# Altium schematic symbol library Nutz.SchLib: 70 symbols
Pins are listed as number, name and electrical type; pins without a type are passive.

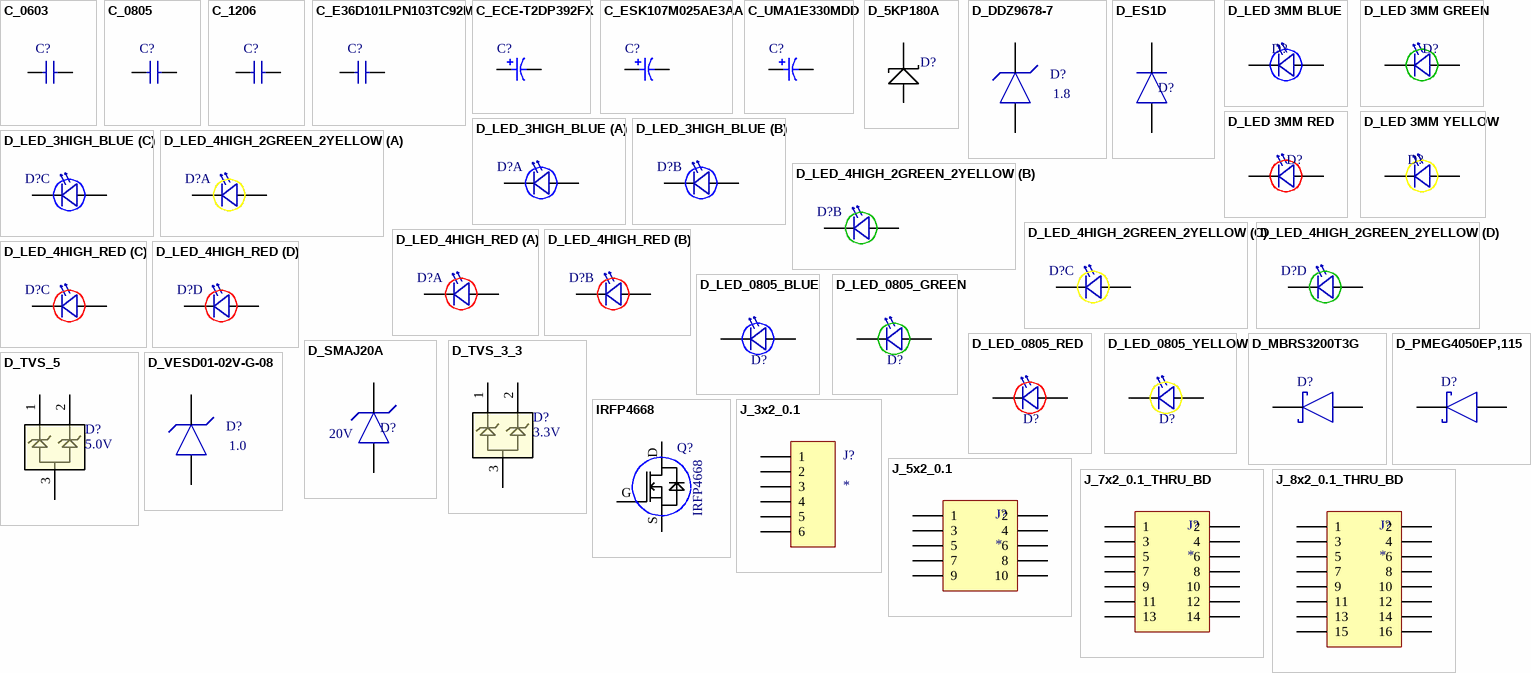
[diagram p0: symbols C_0603 to J_8x2_0.1_THRU_BD]

## C_0603
designator C?, comment CAP 0603  (value not drawn)
CAP CERM 0603; Known Distributors: Digikey; Package: 0603
footprint 0603_cap
pins: 1, 2

## C_0805
designator C?, comment CAP 0805  (value not drawn)
CAP CERM 0805; Known Distributors: Digikey; Package: 0805
footprint 0805_Capacitor (0805 Capacitor)
pins: 1, 2

## C_1206
designator C?, comment CAP 1206  (value not drawn)
CAP CERM 1206; Known Distributors: Digikey; Package: 1206
footprint 1206_CAPACITOR (1206 Resistor/Capacitor)
pins: 1, 2

## C_E36D101LPN103TC92M
designator C?, comment CAP PLACEHOLDER  (value not drawn)
CAP ALUM 10000UF 100V SCREW; Known Distributors: Digikey; Package: 1206
footprint E36D101LPN103TC92M
pins: 1, 2

## C_ECE-T2DP392FX
designator C?
CAP ALUM 3900UF 200V 20% SNAP; Manufacturer: Panasonic; Part Number: ECE-T2DP392FX
footprint T-UP Series 4 Pin
pins: 1, 2

## C_ESK107M025AE3AA
designator C?
CAP ALUM 100UF 25V 20% RADIAL; Manufacturer: Kemet; Part Number: ESK107M025AE3AA
footprint CAPPR2.5-6.3x11 (Capacitor, Electrolytic, Radial; Body 6.3 x 11 mm (Dia.xH typ); Pin Spacing 2.5 mm (typ))
pins: 1, 2

## C_UMA1E330MDD
designator C?
CAP ALUM 33UF 25V 20% RADIAL; Manufacturer: Nichicon; Part Number: UMA1E330MDD
footprint CAPPR2.5-6.3x11 (Capacitor, Electrolytic, Radial; Body 6.3 x 11 mm (Dia.xH typ); Pin Spacing 2.5 mm (typ))
pins: 1, 2

## D_5KP180A
designator D?  (value not drawn)
5KP180A
footprint DIODE_TVS_5000W
pins: A Anode, K Cathode

## D_DDZ9678-7
designator D?  Voltage: 1.8
DIODE ZENER 1.8V 500MW SOD-123; Manufacturer PN: DDZ9678-7
footprint SOD123
pins: A, K

## D_ES1D
designator D?
DIODE ULTRAFAST 200V 1A DO-214AC; Manufactuer: Fairchild; Part Number: ES1D
footprint SMA
pins: A, K

## D_LED 3MM BLUE
designator D?, comment 3MM YELLOW  (value not drawn)
LED 3MM BLUE; Distributor: Digikey
footprint LED 3MM BLUE (Footprint not found)
pins: A Anode, K Cathode

## D_LED 3MM GREEN
designator D?, comment 3MM GREEN  (value not drawn)
LED 3MM GREEN; Dist PN: 365-1174-ND; Distributor: Digikey
footprint LED 3MM GREEN
pins: A Anode, K Cathode

## D_LED 3MM RED
designator D?, comment 3MM RED  (value not drawn)
LED 3MM RED; Dist PN: 365-1175-ND; Distributor: Digikey
footprint LED 3MM RED
pins: A Anode, K Cathode

## D_LED 3MM YELLOW
designator D?, comment 3MM YELLOW  (value not drawn)
LED 3MM YELLOW; Dist PN: 365-1176-ND; Distributor: Digikey
footprint LED 3MM YELLOW
pins: A Anode, K Cathode

## D_LED_3HIGH_BLUE
designator D?
LED 3MM TRI-LEVEL HI-EFF BLUE; Part Number: 564-0100-999F; Manufacturer: Dialight
footprint DIALIGHT 564
part A pins: 1 Cathode, 2 Anode
part B pins: 3 Cathode, 4 Anode
part C pins: 5 Cathode, 6 Anode

## D_LED_4HIGH_2GREEN_2YELLOW
designator D?
LED 4HI 3MM GRN/YEL/GRN/YEL PCMT; Part Number: 568-0102-323F; Manufacturer: Dialight
footprint DIALIGHT 568 (Footprint not found)
part A pins: 1 Cathode, 2 Anode
part B pins: 3 Cathode, 4 Anode
part C pins: 5 Cathode, 6 Anode
part D pins: 7 Cathode, 8 Anode

## D_LED_4HIGH_RED
designator D?
LED 4HI 3MM 5V RED PC MNT; Part Number: 568-0301-111F; Manufacturer: Dialight
footprint DIALIGHT 568 (Footprint not found)
part A pins: 1 Cathode, 2 Anode
part B pins: 3 Cathode, 4 Anode
part C pins: 5 Cathode, 6 Anode
part D pins: 7 Cathode, 8 Anode

## D_LED_0805_BLUE
designator D?  (value not drawn)
LED 2X1.2MM 470NM BL WTR CLR SMD; SVP Creator: Jonathan Nutzmann; Current: 20mA; Forward Voltage: 3.3; Value: RED; Package: 0805; Known Distributors: Digikey; ComponentLink1Description: Datasheet
footprint 0805P_BLUE (Chip Capacitor; Body 2.0 x 1.2 mm (LxW typ))
pins: 1 Cathode, 2 Anode

## D_LED_0805_GREEN
designator D?  (value not drawn)
LED CHIPLED 570NM GREEN 0805 SMD; Manufacturer: Osram Opto Semiconductors Inc; Manufacturer PN: LG R971-KN-1-0-20-R18; SVP Creator: Nate Bolyard; SVP Reviewer 1: Trevtron; Current: 20mA; Forward Voltage: 2.2V; Package: 0805; Known Distributors: Digikey; Value: GREEN; HelpURL: http://umnsvp.dyndns.org/svn/centaurus2/datasheets/common parts/LG_R971.pdf; ComponentLink1URL: http://umnsvp.dyndns.org/svn/centaurus2/datasheets/common parts/LG_R971.pdf; ComponentLink1Description: Datasheet
footprint 0805P_Green (Chip Capacitor; Body 2.0 x 1.2 mm (LxW typ))
pins: 1 Cathode, 2 Anode

## D_LED_0805_RED
designator D?  (value not drawn)
LED CHIPLED 645NM RED DIFF 0805; SVP Creator: Jonathan Nutzmann; Current: 20mA; Forward Voltage: 1.8; Package: 0805; Known Distributors: Digikey; Value: RED; ComponentLink1Description: Datasheet
footprint 0805P_RED (Chip Capacitor; Body 2.0 x 1.2 mm (LxW typ))
pins: 1 Cathode, 2 Anode

## D_LED_0805_YELLOW
designator D?  (value not drawn)
LED 595NM AMBER DIFF SMD 0805; SVP Creator: Jonathan Nutzmann; Current: 20mA; Forward Voltage: 1.9; Value: YELLOW; Package: 0805; Known Distributors: Digikey; ComponentLink1Description: Datasheet
footprint 0805P_YELLOW (Chip Capacitor; Body 2.0 x 1.2 mm (LxW typ))
pins: 1 Cathode, 2 Anode

## D_MBRS3200T3G
designator D?
DIODE SCHOTTKY 3A 200V SMB; Manufacturer: ON Semiconductor; Manufacturer PN: MBRS3200T3G; Package: SMB
footprint SMB (Footprint not found)
pins: A, K

## D_PMEG4050EP,115
designator D?
SCHOTTKY RECT 40V 5A SOD128; Manufacturer: NXP; Manufacturer PN: PMEG4050EP,115; Package: SOD128
footprint SOD128
pins: A, K

## D_SMAJ20A
designator D?, comment Standoff Voltage: 20V  (hidden comment: DIODE TVS 20V 400W UNI 5% SMD)
Manufactuer: Bournes Inc; Part Number: SMAJ20A; Breakdown Voltage: 22.2V
footprint SMA
pins: A, K

## D_TVS_3_3
designator D?, comment 3.3V
3.3V TVS SOT23
footprint SOT-23 (SOT-23; 3 Leads; Body 3.1 x 2.5 mm, inc. leads (LxW max))
pins: 1, 2, 3

## D_TVS_5
designator D?, comment 5.0V
5.0V TVS SOT23
footprint SOT-23 (SOT-23; 3 Leads; Body 3.1 x 2.5 mm, inc. leads (LxW max))
pins: 1, 2, 3

## D_VESD01-02V-G-08
designator D?  Voltage: 1.0
TVS DIODE 1V 63W SOD523; Manufacturer PN: VESD01-02V-G-08
footprint SOD-523 (Footprint not found)
pins: A, K

## IRFP4668
designator Q?
footprint TO-247-UNDER
pins: D Drain, G Gate, S Source

## J_3x2_0.1
designator J?
3 x 2 0.1" Header
footprint 6PIN_2_.100IN
pins: 1, 2, 3, 4, 5, 6

## J_5x2_0.1
designator J?
5 x 2 0.1" Header
footprint 10PIN_2_.100IN
pins: 1, 2, 3, 4, 5, 6, 7, 8, 9, 10

## J_7x2_0.1_THRU_BD
designator J?
7 x 2 0.1" Header; Part Number: HLE-107-02-F-DV-PE-BE; Manufacturer: Samtec
pins: 1, 2, 3, 4, 5, 6, 7, 8, 9, 10, 11, 12, 13, 14

## J_8x2_0.1_THRU_BD
designator J?
8 x 2 0.1" Header; Part Number: HLE-108-02-F-DV-PE-BE; Manufacturer: Samtec
pins: 1, 2, 3, 4, 5, 6, 7, 8, 9, 10, 11, 12, 13, 14, 15, 16

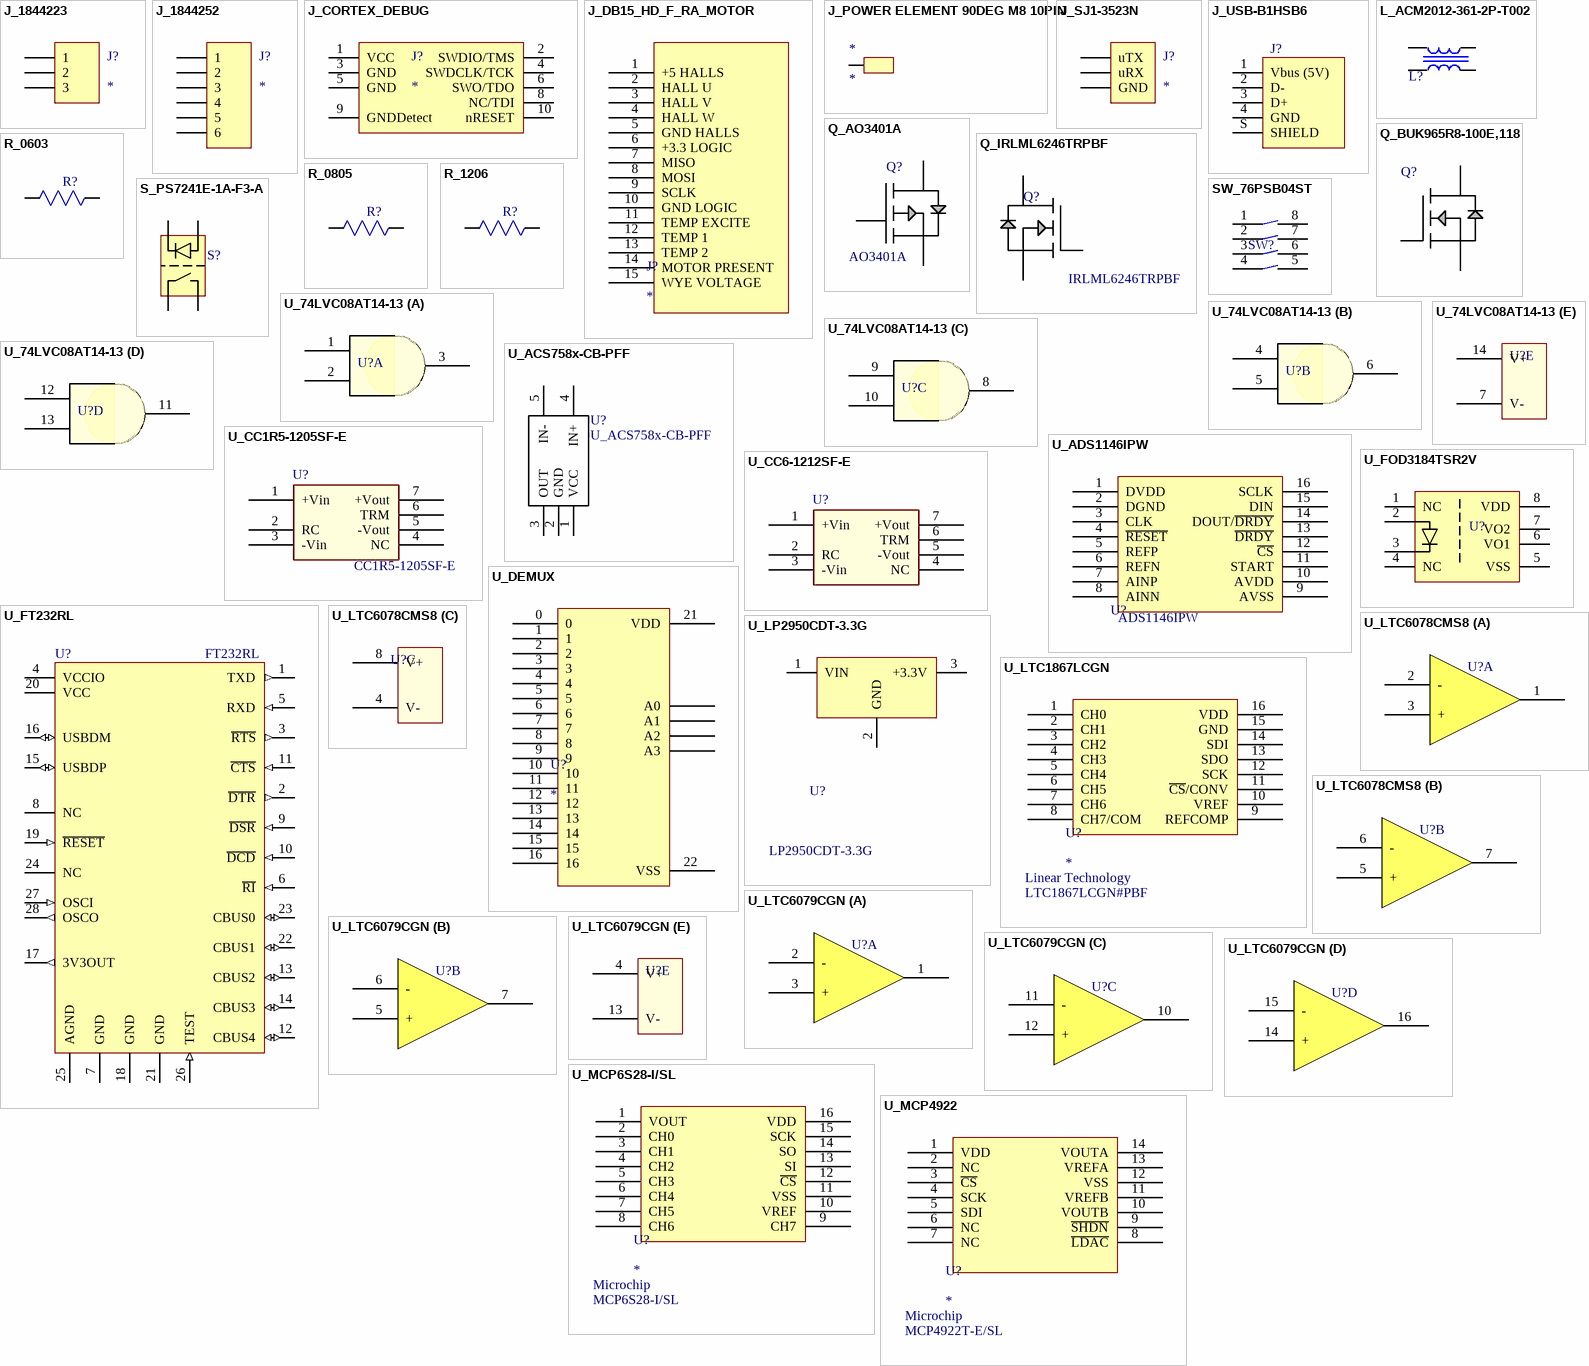
[diagram p1: symbols J_1844223 to U_MCP4922]

## J_1844223
designator J?
HEADER TERM BLOCK 3.5MM 3POS; Part Number: 1844223; Manufacturer: Phoenix
footprint 1844223 (Footprint not found)
pins: 1, 2, 3

## J_1844252
designator J?
HEADER TERM BLOCK 3.5MM 6POS; Manufacturer: Phoenix; Part Number: HEADER TERM BLOCK 3.5MM 6POS
footprint 1844252
pins: 1, 2, 3, 4, 5, 6

## J_CORTEX_DEBUG
designator J?
CORTEX JTAG DEBUG CONNECTOR
pins: 1 VCC, 2 SWDIO/TMS, 3 GND, 4 SWDCLK/TCK, 5 GND, 6 SWO/TDO, 8 NC/TDI, 9 GNDDetect, 10 nRESET

## J_DB15_HD_F_RA_MOTOR
designator J?
pins: 1 +5 HALLS, 2 HALL U, 3 HALL V, 4 HALL W, 5 GND HALLS, 6 +3.3 LOGIC, 7 MISO, 8 MOSI, 9 SCLK, 10 GND LOGIC, 11 TEMP EXCITE, 12 TEMP 1, 13 TEMP 2, 14 MOTOR PRESENT, 15 WYE VOLTAGE

## J_POWER ELEMENT 90DEG M8 10PIN
designator *
footprint POWER ELEMENT 90DEG M8 10PIN
pins: 0

## J_SJ1-3523N
designator J?
CONN JACK STEREO R/A 3PIN 3.5MM; Part Number: SJ1-3523N; Manufacturer: CUI
pins: GND, uRX, uTX

## J_USB-B1HSB6
designator J?
CONN USB TYPE B R/A BLACK; Manufacturer PN: USB-B1HSB6
footprint USB-B1HSB6
pins: 1 Vbus (5V), 2 D-, 3 D+, 4 GND, S SHIELD

## L_ACM2012-361-2P-T002
designator L?
CHOKE COMM MODE 360 OHM .22A SMD; Manufacturer: TDK; Manufacturer PN: ACM2012-361-2P-T002; SVP Creator: Jonathan Nutzmann; Current Rating: 220mA; Package: 0805; Known Distributors: Digikey; Cost: .56
footprint 0805-4 (Footprint not found)
pins: 1, 2, 3, 4

## Q_AO3401A
designator Q?  value AO3401A
MOSFET P-CH -30V -4.3A SOT23; Manufacturer: Alpha & Omega; SVP Creator: Jonathan Nutzmann; Package: SOT-23; Known Distributors: Digikey, Newark; Manufacturer PN: AO3401A; ComponentLink1Description: Datasheet
footprint SOT-23 (SOT23, 3-Leads, Body 3.0x2.7mm (max), Pitch 0.95mm, IPC Medium Density)
pins: 1 GATE, 2 SOURCE, 3 DRAIN

## Q_BUK965R8-100E,118
designator Q?, comment 2SK3541T2L  (value not drawn)
MOSFET N-CH 100V 120A D2PAK; Manufacturer: NXP; Manufacturer PN: BUK965R8-100E,118; Package: D2PAK
footprint D2PAK-Q
pins: 1 GATE, 3 SOURCE, mb DRAIN

## Q_IRLML6246TRPBF
designator Q?  Part Number: IRLML6246TRPBF
MOSFET N-CH 20V 4.1A SOT-23; Manufacturer: Alpha & Omega
footprint SOT-23 (SOT23, 3-Leads, Body 3.0x2.7mm (max), Pitch 0.95mm, IPC Medium Density)
pins: 1 GATE, 2 SOURCE, 3 DRAIN

## R_0603
designator R?, comment RES 0603  (value not drawn)
Known Distributors: Digikey; Package: 0603
footprint 0603_res
pins: 1, 2

## R_0805
designator R?, comment RES 0805  (value not drawn)
Known Distributors: Digikey; Package: 0805
footprint 0805_Resistor (0805 Resistor)
pins: 1, 2

## R_1206
designator R?, comment RES 1206  (value not drawn)
Known Distributors: Digikey; Package: 1206
footprint 1206_Resistor (1206 Resistor/Capacitor)
pins: 1, 2

## S_PS7241E-1A-F3-A
designator S?  (value not drawn)
SSR OCMOS FET 120MA 1CH NO 4-SOP; Manufacturer: CEL; Known Distributors: Digikey; Manufacturer PN: PS7241E-1A-F3-A
footprint 4SOP-GULL (Footprint not found)
pins: 1, 2, 3, 4

## SW_76PSB04ST
designator SW?  (value not drawn)
4 Pin DIP Switch Greyhill Series 76; Known Distributors: Digikey; Manufacturer: Greyhill; Manufacturer PN: 76PSB04ST; ComponentLink1Description: Datasheet; ComponentLink1URL: http://umnsvp.dyndns.org/svn/centaurus2/datasheets/Common Board/CHS.pdf
footprint 76PSB04ST (Dip Switch Piano Style)
pins: 1, 2, 3, 4, 5, 6, 7, 8

## U_74LVC08AT14-13
designator U?, comment 74LVC08AT14-13  (value not drawn)
IC QUAD 2-IN AND GATE 14TSSOP; Manufacturer: Diodes, Inc.; Known Distributors: digikey; Part Number: 74LVC08AT14-13
footprint TSSOP-14-DIODES (TSOP, 14-Leads, Body 5.1x4.5mm (max), Pitch 0.65mm, IPC Medium Density)
part A pins: 1, 2, 3
part B pins: 4, 5, 6
part C pins: 8, 9, 10
part D pins: 11, 12, 13
part E pins: 7 V-, 14 V+

## U_ACS758x-CB-PFF
designator U?
Hall Effect Current Sensor
footprint ACS758
pins: 1 VCC, 2 GND, 3 OUT, 4 IN+, 5 IN-

## U_ADS1146IPW
designator U?  Manufacturer PN: ADS1146IPW  (hidden comment: *)
IC ADC 16BIT SRL 2KSPS 16TSSOP; Manufacturer: Texas Instruments
footprint ADS1146IPW (TSOP, 16-Leads, Body 5.1x4.5mm (max), Pitch 0.65mm, IPC Medium Density)
pins: 1 DVDD, 2 DGND, 3 CLK, 4 ~{RESET}, 5 REFP, 6 REFN, 7 AINP, 8 AINN, 9 AVSS, 10 AVDD, 11 START, 12 ~{CS}, 13 ~{DRDY}, 14 DOUT/~{DRDY}, 15 DIN, 16 SCLK

## U_CC1R5-1205SF-E
designator U?  Part Number: CC1R5-1205SF-E  (hidden comment: U_CC1R5-1205SF-E)
CONV DC/DC 1.5W SNGL 12V 5V PCB; Manufacturer: TDK-Lambda Americas Inc
footprint CC1R5-xF-E
pins: 1 +Vin, 2 RC, 3 -Vin, 4 NC, 5 -Vout, 6 TRM, 7 +Vout

## U_CC6-1212SF-E
designator U?  (value not drawn)
CONV DC/DC 6W SNGL 12V 12V PCB; Manufacturer: TDK-Lambda Americas Inc; Part Number: CC6-1212SF-E
footprint CC6-xF-E (6W Isolated DCDC Converter)
pins: 1 +Vin, 2 RC, 3 -Vin, 4 NC, 5 -Vout, 6 TRM, 7 +Vout

## U_DEMUX
designator U?
pins: 0, 1, 2, 3, 4, 5, 6, 7, 8, 9, 10, 11, 12, 13, 14, 15, 16, 17 A1, 18 A2, 18 A0, 19 A3, 21 VDD, 22 VSS

## U_FOD3184TSR2V
designator U?
OPTO MOSFET/IGBT GATE DVR 8-SMD; Manufacturer: Fairchild; Manufacturer PN: FOD3184TSR2V; Known Distributors: Digikey
pins: 1 NC, 2, 3, 4 NC, 5 VSS, 6 VO1, 7 VO2, 8 VDD

## U_FT232RL
designator U?  value FT232RL  (hidden comment: U_FT232RL)
IC USB TO SERIAL UART 28-SSOP; Manufacturer: FTDI; SVP Creator: Nate Bolyard; SVP Reviewer 1: Trevor Haag; Package: 28-SSOP; Known Distributors: Digikey, Newark; Manufacturer PN: FT232RL; ComponentLink1Description: Datasheet; ComponentLink1URL: http://umnsvp.dyndns.org/svn/centaurus2/datasheets/Common Board/DS_FT232R.pdf; HelpURL: http://umnsvp.dyndns.org/svn/centaurus2/datasheets/Common Board/DS_FT232R.pdf
footprint SOP65P780-28BN (SOP, 28-Leads, Body 10.2x5.3mm, Pitch 0.65mm, IPC Medium Density)
pins: 1 TXD (out), 2 ~{DTR} (out), 3 ~{RTS} (out), 4 VCCIO (power), 5 RXD (in), 6 ~{RI} (in), 7 GND (power), 8 NC (power), 9 ~{DSR} (in), 10 ~{DCD} (in), 11 ~{CTS} (in), 12 CBUS4 (io), 13 CBUS2 (io), 14 CBUS3 (io), 15 USBDP (io), 16 USBDM (io), 17 3V3OUT (out), 18 GND (power), 19 ~{RESET} (in), 20 VCC (power), 21 GND (power), 22 CBUS1 (io), 23 CBUS0 (io), 24 NC (power), 25 AGND (power), 26 TEST (in), 27 OSCI (in), 28 OSCO (out)

## U_LP2950CDT-3.3G
designator U?  Manufacturer PN: LP2950CDT-3.3G  (hidden comment: *)
IC REG LDO LP 100MA 3.3V DPAK; Manufacturer: ON Semiconductor
footprint DPAK - JN
pins: 1 VIN, 2 GND, 3 +3.3V

## U_LTC1867LCGN
designator U?  Manufacturer: Linear Technology  Manufacturer PN: LTC1867LCGN#PBF
IC ADC 16BIT 8CH 175KSPS 16SSOP
footprint SOP63P600X175-16N (SOP, 16-Leads, Body 5.0x4.0mm (max), Pitch 0.63mm, IPC Medium Density)
pins: 1 CH0, 2 CH1, 3 CH2, 4 CH3, 5 CH4, 6 CH5, 7 CH6, 8 CH7/COM, 9 REFCOMP, 10 VREF, 11 ~{CS}/CONV, 12 SCK, 13 SDO, 14 SDI, 15 GND, 16 VDD

## U_LTC6078CMS8
designator U?, comment LTC6078CMS8#PBF  (value not drawn)
IC OP AMP DUAL R-R I/O 8MSOP; Manufacturer: LT; DK PN: LTC6078CMS8#PBF-ND; Known Distributors: digikey; Manufacturer PN: LTC6078CMS8#PBF
footprint MSOP8 (Footprint not found)
part A pins: 1, 2 -, 3 +
part B pins: 5 +, 6 -, 7
part C pins: 4 V-, 8 V+

## U_LTC6079CGN
designator U?  (value not drawn)
IC OP AMP QUAD LOW POWER 14-SOIC; Manufacturer: LT; Manufacturer PN: LTC6079CGN#PBF; DK PN: LTC6079CGN#PBF-ND; Known Distributors: digikey
footprint SSOP-16
part A pins: 1, 2 -, 3 +
part B pins: 5 +, 6 -, 7
part C pins: 10, 11 -, 12 +
part D pins: 14 +, 15 -, 16
part E pins: 4 V+, 13 V-

## U_MCP6S28-I/SL
designator U?  Manufacturer: Microchip  Manufacturer PN: MCP6S28-I/SL
IC PGA 8CH R-R I/O 16SOIC
footprint SOIC127P600X175-16N (SOIC, 16-Leads, Body 10.0x4.0mm (max), Pitch 1.27mm, IPC Medium Density)
pins: 1 VOUT, 2 CH0, 3 CH1, 4 CH2, 5 CH3, 6 CH4, 7 CH5, 8 CH6, 9 CH7, 10 VREF, 11 VSS, 12 ~{CS}, 13 SI, 14 SO, 15 SCK, 16 VDD

## U_MCP4922
designator U?  Manufacturer: Microchip  Manufacturer PN: MCP4922T-E/SL
IC DAC 12BIT DUAL W/SPI 14SOIC
footprint SOIC127P600X175-14N (SOIC, 14-Leads, Body 8.8x4.0mm (max), Pitch 1.27mm, IPC Medium Density)
pins: 1 VDD, 2 NC, 3 ~{CS}, 4 SCK, 5 SDI, 6 NC, 7 NC, 8 ~{LDAC}, 9 ~{SHDN}, 10 VOUTB, 11 VREFB, 12 VSS, 13 VREFA, 14 VOUTA

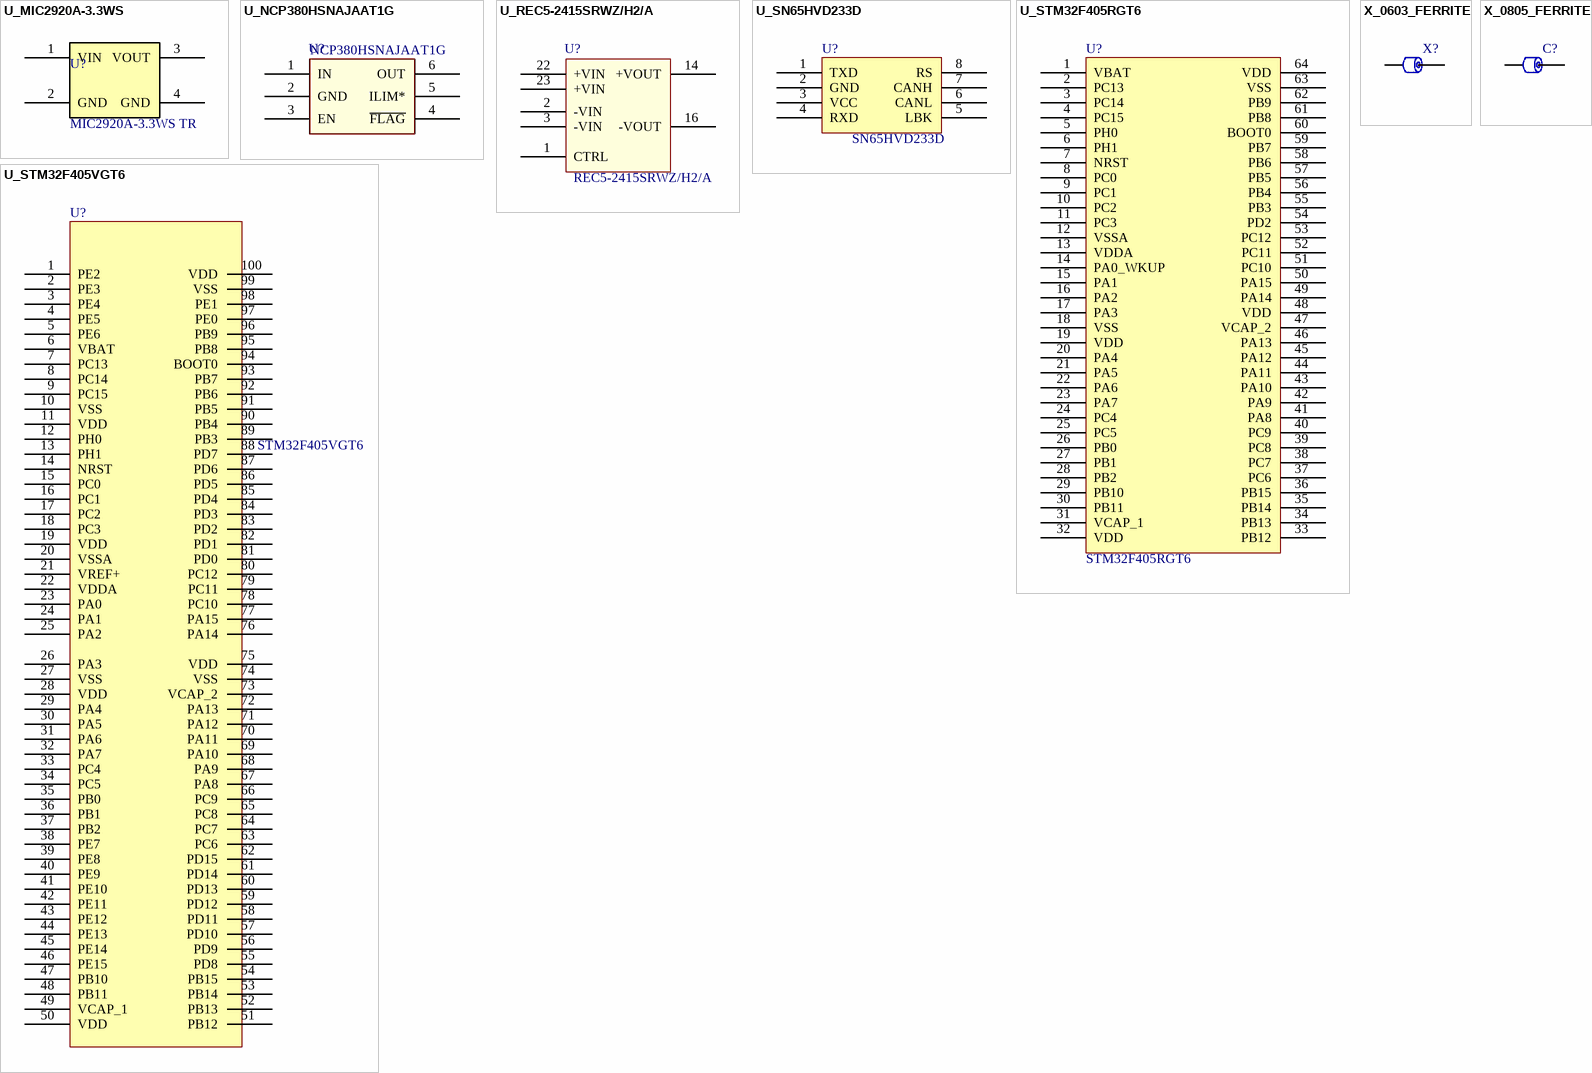
[diagram p2: symbols U_MIC2920A-3.3WS to X_0805_FERRITE]

## U_MIC2920A-3.3WS
designator U?  Part Number: MIC2920A-3.3WS TR
IC REG LDO 3.3V .4A SOT223; Manufacturer: Mircrel
footprint SOT-223 (SOT-223/SC-73; 4 Leads; Body 6.7 x 7.3 mm, inc. leads (LxW max))
pins: 1 VIN, 2 GND, 3 VOUT, 4 GND

## U_NCP380HSNAJAAT1G
designator U?, comment NCP380HSNAJAAT1G
IC CURRENT LIMIT SWITCH 6-TSOP; Manufacturer: ON Semiconductor; Part Number: NCP380HSNAJAAT1G
pins: 1 IN, 2 GND, 3 EN, 4 ~{FLAG}, 5 ILIM*, 6 OUT

## U_REC5-2415SRWZ/H2/A
designator U?  Part Number: REC5-2415SRWZ/H2/A
CONV DC/DC 5W 9-36VIN 15VOUT; Manufacturer: Recomb Power
footprint REC5-2415SRWZ/H2/A (Footprint not found)
pins: 1 CTRL, 2 -VIN, 3 -VIN, 14 +VOUT, 16 -VOUT, 22 +VIN, 23 +VIN

## U_SN65HVD233D
designator U?  Part Number: SN65HVD233D  (hidden comment: U_SN65HVD233D)
IC 3.3V CAN TXRX 8-SOIC; Manufacturer: Texas Instruments
footprint SOIC127P600X175-8N (SOIC, 8-Leads, Body 4.9x3.9mm (max), Pitch 1.27mm, IPC Medium Density)
pins: 1 TXD, 2 GND, 3 VCC, 4 RXD, 5 LBK, 6 CANL, 7 CANH, 8 RS

## U_STM32F405RGT6
designator U?, comment STM32F405RGT6
IC MCU 32BIT 1MB FLASH 64LQFP; Manufacturer: STMicroelectronics; Part Number: STM32F405RGT6
footprint STM32_LQFP64 (TSQFP, 64-Leads, Body 12.0x12.0mm (max), Pitch 0.50mm, IPC Medium Density)
pins: 1 VBAT, 2 PC13, 3 PC14, 4 PC15, 5 PH0, 6 PH1, 7 NRST, 8 PC0, 9 PC1, 10 PC2, 11 PC3, 12 VSSA, 13 VDDA, 14 PA0_WKUP, 15 PA1, 16 PA2, 17 PA3, 18 VSS, 19 VDD, 20 PA4, 21 PA5, 22 PA6, 23 PA7, 24 PC4, 25 PC5, 26 PB0, 27 PB1, 28 PB2, 29 PB10, 30 PB11, 31 VCAP_1, 32 VDD, 33 PB12, 34 PB13, 35 PB14, 36 PB15, 37 PC6, 38 PC7, 39 PC8, 40 PC9, 41 PA8, 42 PA9, 43 PA10, 44 PA11, 45 PA12, 46 PA13, 47 VCAP_2, 48 VDD, 49 PA14, 50 PA15, 51 PC10, 52 PC11, 53 PC12, 54 PD2, 55 PB3, 56 PB4, 57 PB5, 58 PB6, 59 PB7, 60 BOOT0, 61 PB8, 62 PB9, 63 VSS, 64 VDD

## U_STM32F405VGT6
designator U?, comment STM32F405VGT6
IC MCU 32BIT 1MB FLASH 100LQFP; Manufacturer: STMicroelectronics; Part Number: STM32F405VGT6
footprint TSQFP50P1600X1600X160-100N (TSQFP, 100-Leads, Body 16.2x16.2mm (max), Pitch 0.50mm, IPC Medium Density)
pins: 1 PE2, 2 PE3, 3 PE4, 4 PE5, 5 PE6, 6 VBAT, 7 PC13, 8 PC14, 9 PC15, 10 VSS, 11 VDD, 12 PH0, 13 PH1, 14 NRST, 15 PC0, 16 PC1, 17 PC2, 18 PC3, 19 VDD, 20 VSSA, 21 VREF+, 22 VDDA, 23 PA0, 24 PA1, 25 PA2, 26 PA3, 27 VSS, 28 VDD, 29 PA4, 30 PA5, 31 PA6, 32 PA7, 33 PC4, 34 PC5, 35 PB0, 36 PB1, 37 PB2, 38 PE7, 39 PE8, 40 PE9, 41 PE10, 42 PE11, 43 PE12, 44 PE13, 45 PE14, 46 PE15, 47 PB10, 48 PB11, 49 VCAP_1, 50 VDD, 51 PB12, 52 PB13, 53 PB14, 54 PB15, 55 PD8, 56 PD9, 57 PD10, 58 PD11, 59 PD12, 60 PD13, 61 PD14, 62 PD15, 63 PC6, 64 PC7, 65 PC8, 66 PC9, 67 PA8, 68 PA9, 69 PA10, 70 PA11, 71 PA12, 72 PA13, 73 VCAP_2, 74 VSS, 75 VDD, 76 PA14, 77 PA15, 78 PC10, 79 PC11, 80 PC12, 81 PD0, 82 PD1, 83 PD2, 84 PD3, 85 PD4, 86 PD5, 87 PD6, 88 PD7, 89 PB3, 90 PB4, 91 PB5, 92 PB6, 93 PB7, 94 BOOT0, 95 PB8, 96 PB9, 97 PE0, 98 PE1, 99 VSS, 100 VDD

## X_0603_FERRITE
designator X?, comment 0603  (value not drawn)
FERRITE 0603; Known Distributors: Digikey; Package: 0603
footprint 0603_res
pins: 1, 2

## X_0805_FERRITE
designator C?, comment FERRITE 0805  (value not drawn)
Known Distributors: Digikey; Package: 0805
footprint 0805_Resistor (0805 Resistor)
pins: 1, 2